# EAGLE library part XS1-G04B-FB512 (library sjg-xmos)
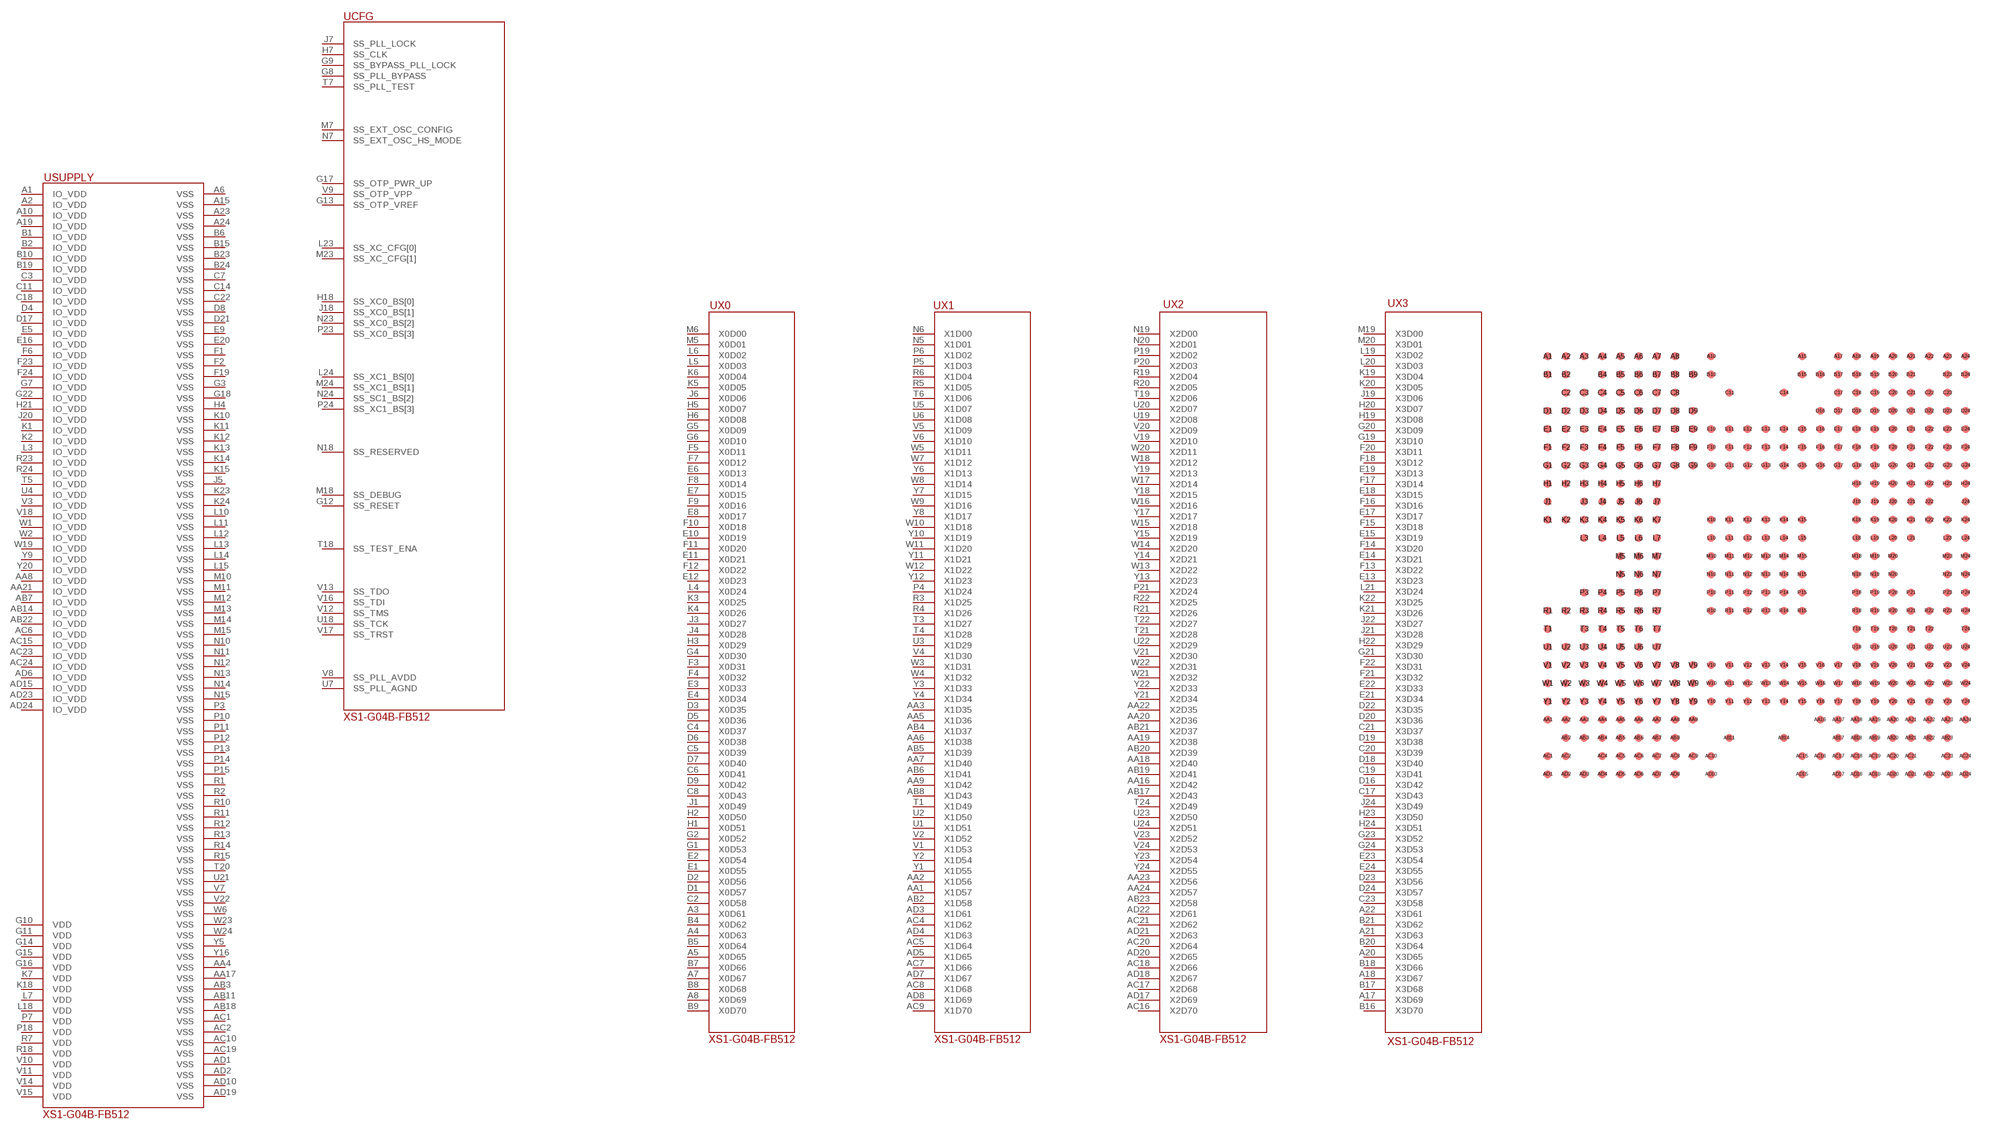
[diagram p1: symbol with the pads of BGA512-5-5; footprint BGA512-5-5]

Designator prefix -; gates SUPPLY=XCS1-G04B-FB12-POWER CFG=XCS1-G04B-FB12-CFG X0=XCS1-G04B-FB12-X0 X1=XCS1-G04B-FB12-X1 X2=XCS1-G04B-FB12-X2 X3=XCS1-G048-FB12-X3

## XS1-G04B-FB512  [BGA512-5-5]
A1  SUPPLY:IO_VDD
A2  SUPPLY:IO_VDD
A3  X0:X0D61
A4  X0:X0D63
A5  X0:X0D65
A6  SUPPLY:VSS
A7  X0:X0D67
A8  X0:X0D69
A10  SUPPLY:IO_VDD
A15  SUPPLY:VSS
A17  X3:X3D69
A18  X3:X3D67
A19  SUPPLY:IO_VDD
A20  X3:X3D65
A21  X3:X3D63
A22  X3:X3D61
A23  SUPPLY:VSS
A24  SUPPLY:VSS
AA1  X1:X1D57
AA2  X1:X1D56
AA3  X1:X1D35
AA4  SUPPLY:VSS
AA5  X1:X1D36
AA6  X1:X1D38
AA7  X1:X1D40
AA8  SUPPLY:IO_VDD
AA9  X1:X1D42
AA16  X2:X2D42
AA17  SUPPLY:VSS
AA18  X2:X2D40
AA19  X2:X2D38
AA20  X2:X2D36
AA21  SUPPLY:IO_VDD
AA22  X2:X2D35
AA23  X2:X2D56
AA24  X2:X2D57
AB2  X1:X1D58
AB3  SUPPLY:VSS
AB4  X1:X1D37
AB5  X1:X1D39
AB6  X1:X1D41
AB7  SUPPLY:IO_VDD
AB8  X1:X1D43
AB11  SUPPLY:VSS
AB14  SUPPLY:IO_VDD
AB17  X2:X2D43
AB18  SUPPLY:VSS
AB19  X2:X2D41
AB20  X2:X2D39
AB21  X2:X2D37
AB22  SUPPLY:IO_VDD
AB23  X2:X2D58
AC1  SUPPLY:VSS
AC2  SUPPLY:VSS
AC4  X1:X1D62
AC5  X1:X1D64
AC6  SUPPLY:IO_VDD
AC7  X1:X1D66
AC8  X1:X1D68
AC9  X1:X1D70
AC10  SUPPLY:VSS
AC15  SUPPLY:IO_VDD
AC16  X2:X2D70
AC17  X2:X2D68
AC18  X2:X2D66
AC19  SUPPLY:VSS
AC20  X2:X2D64
AC21  X2:X2D62
AC23  SUPPLY:IO_VDD
AC24  SUPPLY:IO_VDD
AD1  SUPPLY:VSS
AD2  SUPPLY:VSS
AD3  X1:X1D61
AD4  X1:X1D63
AD5  X1:X1D65
AD6  SUPPLY:IO_VDD
AD7  X1:X1D67
AD8  X1:X1D69
AD10  SUPPLY:VSS
AD15  SUPPLY:IO_VDD
AD17  X2:X2D69
AD18  X2:X2D67
AD19  SUPPLY:VSS
AD20  X2:X2D65
AD21  X2:X2D63
AD22  X2:X2D61
AD23  SUPPLY:IO_VDD
AD24  SUPPLY:IO_VDD
B1  SUPPLY:IO_VDD
B2  SUPPLY:IO_VDD
B4  X0:X0D62
B5  X0:X0D64
B6  SUPPLY:VSS
B7  X0:X0D66
B8  X0:X0D68
B9  X0:X0D70
B10  SUPPLY:IO_VDD
B15  SUPPLY:VSS
B16  X3:X3D70
B17  X3:X3D68
B18  X3:X3D66
B19  SUPPLY:IO_VDD
B20  X3:X3D64
B21  X3:X3D62
B23  SUPPLY:VSS
B24  SUPPLY:VSS
C2  X0:X0D58
C3  SUPPLY:IO_VDD
C4  X0:X0D37
C5  X0:X0D39
C6  X0:X0D41
C7  SUPPLY:VSS
C8  X0:X0D43
C11  SUPPLY:IO_VDD
C14  SUPPLY:VSS
C17  X3:X3D43
C18  SUPPLY:IO_VDD
C19  X3:X3D41
C20  X3:X3D39
C21  X3:X3D37
C22  SUPPLY:VSS
C23  X3:X3D58
D1  X0:X0D57
D2  X0:X0D56
D3  X0:X0D35
D4  SUPPLY:IO_VDD
D5  X0:X0D36
D6  X0:X0D38
D7  X0:X0D40
D8  SUPPLY:VSS
D9  X0:X0D42
D16  X3:X3D42
D17  SUPPLY:IO_VDD
D18  X3:X3D40
D19  X3:X3D38
D20  X3:X3D36
D21  SUPPLY:VSS
D22  X3:X3D35
D23  X3:X3D56
D24  X3:X3D57
E1  X0:X0D55
E2  X0:X0D54
E3  X0:X0D33
E4  X0:X0D34
E5  SUPPLY:IO_VDD
E6  X0:X0D13
E7  X0:X0D15
E8  X0:X0D17
E9  SUPPLY:VSS
E10  X0:X0D19
E11  X0:X0D21
E12  X0:X0D23
E13  X3:X3D23
E14  X3:X3D21
E15  X3:X3D19
E16  SUPPLY:IO_VDD
E17  X3:X3D17
E18  X3:X3D15
E19  X3:X3D13
E20  SUPPLY:VSS
E21  X3:X3D34
E22  X3:X3D33
E23  X3:X3D54
E24  X3:X3D55
F1  SUPPLY:VSS
F2  SUPPLY:VSS
F3  X0:X0D31
F4  X0:X0D32
F5  X0:X0D11
F6  SUPPLY:IO_VDD
F7  X0:X0D12
F8  X0:X0D14
F9  X0:X0D16
F10  X0:X0D18
F11  X0:X0D20
F12  X0:X0D22
F13  X3:X3D22
F14  X3:X3D20
F15  X3:X3D18
F16  X3:X3D16
F17  X3:X3D14
F18  X3:X3D12
F19  SUPPLY:VSS
F20  X3:X3D11
F21  X3:X3D32
F22  X3:X3D31
F23  SUPPLY:IO_VDD
F24  SUPPLY:IO_VDD
G1  X0:X0D53
G2  X0:X0D52
G3  SUPPLY:VSS
G4  X0:X0D30
G5  X0:X0D09
G6  X0:X0D10
G7  SUPPLY:IO_VDD
G8  CFG:SS_PLL_BYPASS
G9  CFG:SS_BYPASS_PLL_LOCK
G10  SUPPLY:VDD
G11  SUPPLY:VDD
G12  CFG:SS_RESET
G13  CFG:SS_OTP_VREF
G14  SUPPLY:VDD
G15  SUPPLY:VDD
G16  SUPPLY:VDD
G17  CFG:SS_OTP_PWR_UP
G18  SUPPLY:VSS
G19  X3:X3D10
G20  X3:X3D09
G21  X3:X3D30
G22  SUPPLY:IO_VDD
G23  X3:X3D52
G24  X3:X3D53
H1  X0:X0D51
H2  X0:X0D50
H3  X0:X0D29
H4  SUPPLY:VSS
H5  X0:X0D07
H6  X0:X0D08
H7  CFG:SS_CLK
H18  CFG:SS_XC0_BS[0]
H19  X3:X3D08
H20  X3:X3D07
H21  SUPPLY:IO_VDD
H22  X3:X3D29
H23  X3:X3D50
H24  X3:X3D51
J1  X0:X0D49
J3  X0:X0D27
J4  X0:X0D28
J5  SUPPLY:VSS
J6  X0:X0D06
J7  CFG:SS_PLL_LOCK
J18  CFG:SS_XC0_BS[1]
J19  X3:X3D06
J20  SUPPLY:IO_VDD
J21  X3:X3D28
J22  X3:X3D27
J24  X3:X3D49
K1  SUPPLY:IO_VDD
K2  SUPPLY:IO_VDD
K3  X0:X0D25
K4  X0:X0D26
K5  X0:X0D05
K6  X0:X0D04
K7  SUPPLY:VDD
K10  SUPPLY:VSS
K11  SUPPLY:VSS
K12  SUPPLY:VSS
K13  SUPPLY:VSS
K14  SUPPLY:VSS
K15  SUPPLY:VSS
K18  SUPPLY:VDD
K19  X3:X3D04
K20  X3:X3D05
K21  X3:X3D26
K22  X3:X3D25
K23  SUPPLY:VSS
K24  SUPPLY:VSS
L3  SUPPLY:IO_VDD
L4  X0:X0D24
L5  X0:X0D03
L6  X0:X0D02
L7  SUPPLY:VDD
L10  SUPPLY:VSS
L11  SUPPLY:VSS
L12  SUPPLY:VSS
L13  SUPPLY:VSS
L14  SUPPLY:VSS
L15  SUPPLY:VSS
L18  SUPPLY:VDD
L19  X3:X3D02
L20  X3:X3D03
L21  X3:X3D24
L23  CFG:SS_XC_CFG[0]
L24  CFG:SS_XC1_BS[0]
M5  X0:X0D01
M6  X0:X0D00
M7  CFG:SS_EXT_OSC_CONFIG
M10  SUPPLY:VSS
M11  SUPPLY:VSS
M12  SUPPLY:VSS
M13  SUPPLY:VSS
M14  SUPPLY:VSS
M15  SUPPLY:VSS
M18  CFG:SS_DEBUG
M19  X3:X3D00
M20  X3:X3D01
M23  CFG:SS_XC_CFG[1]
M24  CFG:SS_XC1_BS[1]
N5  X1:X1D01
N6  X1:X1D00
N7  CFG:SS_EXT_OSC_HS_MODE
N10  SUPPLY:VSS
N11  SUPPLY:VSS
N12  SUPPLY:VSS
N13  SUPPLY:VSS
N14  SUPPLY:VSS
N15  SUPPLY:VSS
N18  CFG:SS_RESERVED
N19  X2:X2D00
N20  X2:X2D01
N23  CFG:SS_XC0_BS[2]
N24  CFG:SS_SC1_BS[2]
P3  SUPPLY:VSS
P4  X1:X1D24
P5  X1:X1D03
P6  X1:X1D02
P7  SUPPLY:VDD
P10  SUPPLY:VSS
P11  SUPPLY:VSS
P12  SUPPLY:VSS
P13  SUPPLY:VSS
P14  SUPPLY:VSS
P15  SUPPLY:VSS
P18  SUPPLY:VDD
P19  X2:X2D02
P20  X2:X2D03
P21  X2:X2D24
P23  CFG:SS_XC0_BS[3]
P24  CFG:SS_XC1_BS[3]
R1  SUPPLY:VSS
R2  SUPPLY:VSS
R3  X1:X1D25
R4  X1:X1D26
R5  X1:X1D05
R6  X1:X1D04
R7  SUPPLY:VDD
R10  SUPPLY:VSS
R11  SUPPLY:VSS
R12  SUPPLY:VSS
R13  SUPPLY:VSS
R14  SUPPLY:VSS
R15  SUPPLY:VSS
R18  SUPPLY:VDD
R19  X2:X2D04
R20  X2:X2D05
R21  X2:X2D26
R22  X2:X2D25
R23  SUPPLY:IO_VDD
R24  SUPPLY:IO_VDD
T1  X1:X1D49
T3  X1:X1D27
T4  X1:X1D28
T5  SUPPLY:IO_VDD
T6  X1:X1D06
T7  CFG:SS_PLL_TEST
T18  CFG:SS_TEST_ENA
T19  X2:X2D06
T20  SUPPLY:VSS
T21  X2:X2D28
T22  X2:X2D27
T24  X2:X2D49
U1  X1:X1D51
U2  X1:X1D50
U3  X1:X1D29
U4  SUPPLY:IO_VDD
U5  X1:X1D07
U6  X1:X1D08
U7  CFG:SS_PLL_AGND
U18  CFG:SS_TCK
U19  X2:X2D08
U20  X2:X2D07
U21  SUPPLY:VSS
U22  X2:X2D29
U23  X2:X2D50
U24  X2:X2D51
V1  X1:X1D53
V2  X1:X1D52
V3  SUPPLY:IO_VDD
V4  X1:X1D30
V5  X1:X1D09
V6  X1:X1D10
V7  SUPPLY:VSS
V8  CFG:SS_PLL_AVDD
V9  CFG:SS_OTP_VPP
V10  SUPPLY:VDD
V11  SUPPLY:VDD
V12  CFG:SS_TMS
V13  CFG:SS_TDO
V14  SUPPLY:VDD
V15  SUPPLY:VDD
V16  CFG:SS_TDI
V17  CFG:SS_TRST
V18  SUPPLY:IO_VDD
V19  X2:X2D10
V20  X2:X2D09
V21  X2:X2D30
V22  SUPPLY:VSS
V23  X2:X2D52
V24  X2:X2D53
W1  SUPPLY:IO_VDD
W2  SUPPLY:IO_VDD
W3  X1:X1D31
W4  X1:X1D32
W5  X1:X1D11
W6  SUPPLY:VSS
W7  X1:X1D12
W8  X1:X1D14
W9  X1:X1D16
W10  X1:X1D18
W11  X1:X1D20
W12  X1:X1D22
W13  X2:X2D22
W14  X2:X2D20
W15  X2:X2D18
W16  X2:X2D16
W17  X2:X2D14
W18  X2:X2D12
W19  SUPPLY:IO_VDD
W20  X2:X2D11
W21  X2:X2D32
W22  X2:X2D31
W23  SUPPLY:VSS
W24  SUPPLY:VSS
Y1  X1:X1D55
Y2  X1:X1D54
Y3  X1:X1D33
Y4  X1:X1D34
Y5  SUPPLY:VSS
Y6  X1:X1D13
Y7  X1:X1D15
Y8  X1:X1D17
Y9  SUPPLY:IO_VDD
Y10  X1:X1D19
Y11  X1:X1D21
Y12  X1:X1D23
Y13  X2:X2D23
Y14  X2:X2D21
Y15  X2:X2D19
Y16  SUPPLY:VSS
Y17  X2:X2D17
Y18  X2:X2D15
Y19  X2:X2D13
Y20  SUPPLY:IO_VDD
Y21  X2:X2D34
Y22  X2:X2D33
Y23  X2:X2D54
Y24  X2:X2D55

## Footprint BGA512-5-5 (pad centres in mm)
smd 0.35 x 0.35: A1 -9.2,9.2; A2 -8.4,9.2; A3 -7.6,9.2; A4 -6.8,9.2; A5 -6,9.2; A6 -5.2,9.2; A7 -4.4,9.2; A8 -3.6,9.2; A10 -2,9.2; A15 2,9.2; A17 3.6,9.2; A18 4.4,9.2; A19 5.2,9.2; A20 6,9.2; A21 6.8,9.2; A22 7.6,9.2; A23 8.4,9.2; A24 9.2,9.2; AA1 -9.2,-6.8; AA2 -8.4,-6.8; AA3 -7.6,-6.8; AA4 -6.8,-6.8; AA5 -6,-6.8; AA6 -5.2,-6.8; AA7 -4.4,-6.8; AA8 -3.6,-6.8; AA9 -2.8,-6.8; AA16 2.8,-6.8; AA17 3.6,-6.8; AA18 4.4,-6.8; AA19 5.2,-6.8; AA20 6,-6.8; AA21 6.8,-6.8; AA22 7.6,-6.8; AA23 8.4,-6.8; AA24 9.2,-6.8; AB2 -8.4,-7.6; AB3 -7.6,-7.6; AB4 -6.8,-7.6; AB5 -6,-7.6; AB6 -5.2,-7.6; AB7 -4.4,-7.6; AB8 -3.6,-7.6; AB11 -1.2,-7.6; AB14 1.2,-7.6; AB17 3.6,-7.6; AB18 4.4,-7.6; AB19 5.2,-7.6; AB20 6,-7.6; AB21 6.8,-7.6; AB22 7.6,-7.6; AB23 8.4,-7.6; AC1 -9.2,-8.4; AC2 -8.4,-8.4; AC4 -6.8,-8.4; AC5 -6,-8.4; AC6 -5.2,-8.4; AC7 -4.4,-8.4; AC8 -3.6,-8.4; AC9 -2.8,-8.4; AC10 -2,-8.4; AC15 2,-8.4; AC16 2.8,-8.4; AC17 3.6,-8.4; AC18 4.4,-8.4; AC19 5.2,-8.4; AC20 6,-8.4; AC21 6.8,-8.4; AC23 8.4,-8.4; AC24 9.2,-8.4; AD1 -9.2,-9.2; AD2 -8.4,-9.2; AD3 -7.6,-9.2; AD4 -6.8,-9.2; AD5 -6,-9.2; AD6 -5.2,-9.2; AD7 -4.4,-9.2; AD8 -3.6,-9.2; AD10 -2,-9.2; AD15 2,-9.2; AD17 3.6,-9.2; AD18 4.4,-9.2; AD19 5.2,-9.2; AD20 6,-9.2; AD21 6.8,-9.2; AD22 7.6,-9.2; AD23 8.4,-9.2; AD24 9.2,-9.2; B1 -9.2,8.4; B2 -8.4,8.4; B4 -6.8,8.4; B5 -6,8.4; B6 -5.2,8.4; B7 -4.4,8.4; B8 -3.6,8.4; B9 -2.8,8.4; B10 -2,8.4; B15 2,8.4; B16 2.8,8.4; B17 3.6,8.4; B18 4.4,8.4; B19 5.2,8.4; B20 6,8.4; B21 6.8,8.4; B23 8.4,8.4; B24 9.2,8.4; C2 -8.4,7.6; C3 -7.6,7.6; C4 -6.8,7.6; C5 -6,7.6; C6 -5.2,7.6; C7 -4.4,7.6; C8 -3.6,7.6; C11 -1.2,7.6; C14 1.2,7.6; C17 3.6,7.6; C18 4.4,7.6; C19 5.2,7.6; C20 6,7.6; C21 6.8,7.6; C22 7.6,7.6; C23 8.4,7.6; D1 -9.2,6.8; D2 -8.4,6.8; D3 -7.6,6.8; D4 -6.8,6.8; D5 -6,6.8; D6 -5.2,6.8; D7 -4.4,6.8; D8 -3.6,6.8; D9 -2.8,6.8; D16 2.8,6.8; D17 3.6,6.8; D18 4.4,6.8; D19 5.2,6.8; D20 6,6.8; D21 6.8,6.8; D22 7.6,6.8; D23 8.4,6.8; D24 9.2,6.8; E1 -9.2,6; E2 -8.4,6; E3 -7.6,6; E4 -6.8,6; E5 -6,6; E6 -5.2,6; E7 -4.4,6; E8 -3.6,6; E9 -2.8,6; E10 -2,6; E11 -1.2,6; E12 -0.4,6; E13 0.4,6; E14 1.2,6; E15 2,6; E16 2.8,6; E17 3.6,6; E18 4.4,6; E19 5.2,6; E20 6,6; E21 6.8,6; E22 7.6,6; E23 8.4,6; E24 9.2,6; F1 -9.2,5.2; F2 -8.4,5.2; F3 -7.6,5.2; F4 -6.8,5.2; F5 -6,5.2; F6 -5.2,5.2; F7 -4.4,5.2; F8 -3.6,5.2; F9 -2.8,5.2; F10 -2,5.2; F11 -1.2,5.2; F12 -0.4,5.2; F13 0.4,5.2; F14 1.2,5.2; F15 2,5.2; F16 2.8,5.2; F17 3.6,5.2; F18 4.4,5.2; F19 5.2,5.2; F20 6,5.2; F21 6.8,5.2; F22 7.6,5.2; F23 8.4,5.2; F24 9.2,5.2; G1 -9.2,4.4; G2 -8.4,4.4; G3 -7.6,4.4; G4 -6.8,4.4; G5 -6,4.4; G6 -5.2,4.4; G7 -4.4,4.4; G8 -3.6,4.4; G9 -2.8,4.4; G10 -2,4.4; G11 -1.2,4.4; G12 -0.4,4.4; G13 0.4,4.4; G14 1.2,4.4; G15 2,4.4; G16 2.8,4.4; G17 3.6,4.4; G18 4.4,4.4; G19 5.2,4.4; G20 6,4.4; G21 6.8,4.4; G22 7.6,4.4; G23 8.4,4.4; G24 9.2,4.4; H1 -9.2,3.6; H2 -8.4,3.6; H3 -7.6,3.6; H4 -6.8,3.6; H5 -6,3.6; H6 -5.2,3.6; H7 -4.4,3.6; H18 4.4,3.6; H19 5.2,3.6; H20 6,3.6; H21 6.8,3.6; H22 7.6,3.6; H23 8.4,3.6; H24 9.2,3.6; J1 -9.2,2.8; J3 -7.6,2.8; J4 -6.8,2.8; J5 -6,2.8; J6 -5.2,2.8; J7 -4.4,2.8; J18 4.4,2.8; J19 5.2,2.8; J20 6,2.8; J21 6.8,2.8; J22 7.6,2.8; J24 9.2,2.8; K1 -9.2,2; K2 -8.4,2; K3 -7.6,2; K4 -6.8,2; K5 -6,2; K6 -5.2,2; K7 -4.4,2; K10 -2,2; K11 -1.2,2; K12 -0.4,2; K13 0.4,2; K14 1.2,2; K15 2,2; K18 4.4,2; K19 5.2,2; K20 6,2; K21 6.8,2; K22 7.6,2; K23 8.4,2; K24 9.2,2; L3 -7.6,1.2; L4 -6.8,1.2; L5 -6,1.2; L6 -5.2,1.2; L7 -4.4,1.2; L10 -2,1.2; L11 -1.2,1.2; L12 -0.4,1.2; L13 0.4,1.2; L14 1.2,1.2; L15 2,1.2; L18 4.4,1.2; L19 5.2,1.2; L20 6,1.2; L21 6.8,1.2; L23 8.4,1.2; L24 9.2,1.2; M5 -6,0.4; M6 -5.2,0.4; M7 -4.4,0.4; M10 -2,0.4; M11 -1.2,0.4; M12 -0.4,0.4; M13 0.4,0.4; M14 1.2,0.4; M15 2,0.4; M18 4.4,0.4; M19 5.2,0.4; M20 6,0.4; M23 8.4,0.4; M24 9.2,0.4; N5 -6,-0.4; N6 -5.2,-0.4; N7 -4.4,-0.4; N10 -2,-0.4; N11 -1.2,-0.4; N12 -0.4,-0.4; N13 0.4,-0.4; N14 1.2,-0.4; N15 2,-0.4; N18 4.4,-0.4; N19 5.2,-0.4; N20 6,-0.4; N23 8.4,-0.4; N24 9.2,-0.4; P3 -7.6,-1.2; P4 -6.8,-1.2; P5 -6,-1.2; P6 -5.2,-1.2; P7 -4.4,-1.2; P10 -2,-1.2; P11 -1.2,-1.2; P12 -0.4,-1.2; P13 0.4,-1.2; P14 1.2,-1.2; P15 2,-1.2; P18 4.4,-1.2; P19 5.2,-1.2; P20 6,-1.2; P21 6.8,-1.2; P23 8.4,-1.2; P24 9.2,-1.2; R1 -9.2,-2; R2 -8.4,-2; R3 -7.6,-2; R4 -6.8,-2; R5 -6,-2; R6 -5.2,-2; R7 -4.4,-2; R10 -2,-2; R11 -1.2,-2; R12 -0.4,-2; R13 0.4,-2; R14 1.2,-2; R15 2,-2; R18 4.4,-2; R19 5.2,-2; R20 6,-2; R21 6.8,-2; R22 7.6,-2; R23 8.4,-2; R24 9.2,-2; T1 -9.2,-2.8; T3 -7.6,-2.8; T4 -6.8,-2.8; T5 -6,-2.8; T6 -5.2,-2.8; T7 -4.4,-2.8; T18 4.4,-2.8; T19 5.2,-2.8; T20 6,-2.8; T21 6.8,-2.8; T22 7.6,-2.8; T24 9.2,-2.8; U1 -9.2,-3.6; U2 -8.4,-3.6; U3 -7.6,-3.6; U4 -6.8,-3.6; U5 -6,-3.6; U6 -5.2,-3.6; U7 -4.4,-3.6; U18 4.4,-3.6; U19 5.2,-3.6; U20 6,-3.6; U21 6.8,-3.6; U22 7.6,-3.6; U23 8.4,-3.6; U24 9.2,-3.6; V1 -9.2,-4.4; V2 -8.4,-4.4; V3 -7.6,-4.4; V4 -6.8,-4.4; V5 -6,-4.4; V6 -5.2,-4.4; V7 -4.4,-4.4; V8 -3.6,-4.4; V9 -2.8,-4.4; V10 -2,-4.4; V11 -1.2,-4.4; V12 -0.4,-4.4; V13 0.4,-4.4; V14 1.2,-4.4; V15 2,-4.4; V16 2.8,-4.4; V17 3.6,-4.4; V18 4.4,-4.4; V19 5.2,-4.4; V20 6,-4.4; V21 6.8,-4.4; V22 7.6,-4.4; V23 8.4,-4.4; V24 9.2,-4.4; W1 -9.2,-5.2; W2 -8.4,-5.2; W3 -7.6,-5.2; W4 -6.8,-5.2; W5 -6,-5.2; W6 -5.2,-5.2; W7 -4.4,-5.2; W8 -3.6,-5.2; W9 -2.8,-5.2; W10 -2,-5.2; W11 -1.2,-5.2; W12 -0.4,-5.2; W13 0.4,-5.2; W14 1.2,-5.2; W15 2,-5.2; W16 2.8,-5.2; W17 3.6,-5.2; W18 4.4,-5.2; W19 5.2,-5.2; W20 6,-5.2; W21 6.8,-5.2; W22 7.6,-5.2; W23 8.4,-5.2; W24 9.2,-5.2; Y1 -9.2,-6; Y2 -8.4,-6; Y3 -7.6,-6; Y4 -6.8,-6; Y5 -6,-6; Y6 -5.2,-6; Y7 -4.4,-6; Y8 -3.6,-6; Y9 -2.8,-6; Y10 -2,-6; Y11 -1.2,-6; Y12 -0.4,-6; Y13 0.4,-6; Y14 1.2,-6; Y15 2,-6; Y16 2.8,-6; Y17 3.6,-6; Y18 4.4,-6; Y19 5.2,-6; Y20 6,-6; Y21 6.8,-6; Y22 7.6,-6; Y23 8.4,-6; Y24 9.2,-6